# EAGLE library part MOSFET,COMPLIMENTARY,SEPARATE (library QuantumOptics)
N- and P-channels FETs in one package, no shared connections, such as Diodes Inc DMC3025LSD.
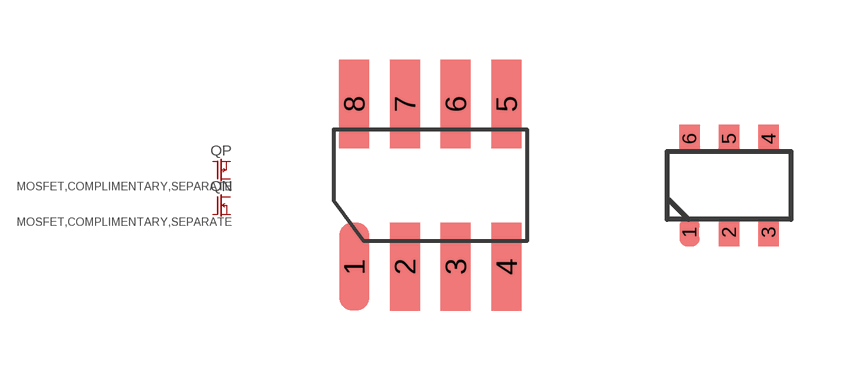
[diagram p184: symbol with the pads of SOIC-8; footprints SOIC-8, TSOP-6]

Designator prefix Q; gates N=MOSFET-N P=MOSFET-P

## MOSFET,COMPLIMENTARY,SEPARATE-SO8  [SOIC-8]
1  N:S
2  N:G
3  P:S  pas
4  P:G  pas
5  P:D  pas
6  P:D  pas
7  N:D
8  N:D

## MOSFET,COMPLIMENTARY,SEPARATE-TSOP6  [TSOP-6]
1  N:G
2  P:S  pas
3  P:G  pas
4  P:D  pas
5  N:S
6  N:D

## Footprint SOIC-8 (pad centres in mm)
SOIC-8 (AKA SO-8), pads on 0.050" grid.
smd 0.75 x 2.2: 1 -1.905,-2.032; 2 -0.635,-2.032; 3 0.635,-2.032; 4 1.905,-2.032; 5 1.905,2.032; 6 0.635,2.032; 7 -0.635,2.032; 8 -1.905,2.032

## Footprint TSOP-6 (pad centres in mm)
TSOP-6, 3x3mm, from Vishay Siliconix si3586dv complimentary FETs.
smd 0.508 x 0.711: 1 -0.991,-1.168; 2 0,-1.168; 3 0.991,-1.168; 4 0.991,1.168; 5 0,1.168; 6 -0.991,1.168